# EAGLE library part DPDT (library BaseApp)
Digikey No :- __401-2002-1-ND__
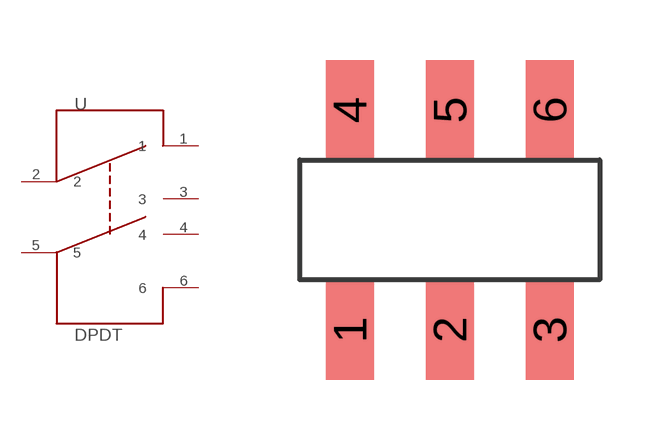
[diagram p34: symbol with the pads of DPDT; footprint DPDT]

Designator prefix -

## DPDT  [DPDT]
1  1
2  2
3  3
4  4
5  5
6  6

## Footprint DPDT (pad centres in mm)
smd 1.2 x 2.5: 1 0,1.25; 2 2.5,1.25; 3 5,1.25; 4 0,6.75; 5 2.5,6.75; 6 5,6.75